# Altium footprint library SM_LED_0603_RED.PcbLib: 1 footprints
Each footprint in its own frame and in the unit in brackets; x right, y up, seen from the top. Pads: shape width x height; smd on the part's side, far side on the other; paste and mask are expansions set on the pad; w line width, h text height; cw(c..) or ccw(c..) is an arc to the next point about the centre after c.
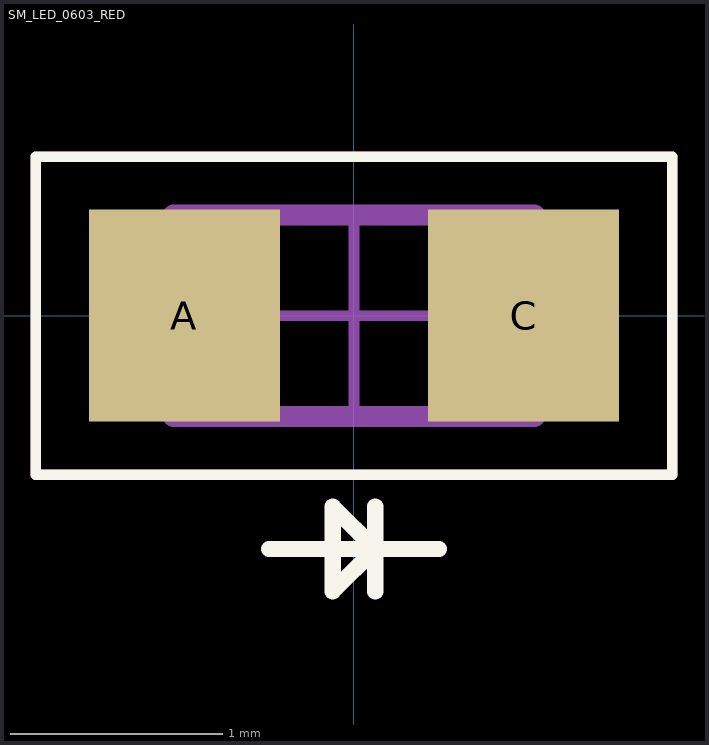
[diagram p0: the footprint, top view; thin cyan lines are the x and y axes]

## SM_LED_0603_RED [mm]
pads (2):
  rect 0.9x1 smd: A(-0.8,0) C(0.8,0)
Top Overlay:
  lines w0.05: -1.5,-0.75 -1.5,0.75 1.5,0.75 1.5,-0.75 -1.5,-0.75
  lines w0.076: -0.4,-1.1 0.4,-1.1 ; 0.1,-1.3 0.1,-0.9 ; -0.1,-1.3 0.1,-1.1 -0.1,-0.9 -0.1,-1.3
Mechanical 13:
  lines w0.1: -0.85,-0.475 0.85,-0.475 0.85,0.475 -0.85,0.475 -0.85,-0.475
Mechanical 15:
  lines w0.05: -0.475,0 0.475,0 ; 0,-0.475 0,0.475 ; -1.5,-0.75 -1.5,0.75 1.5,0.75 1.5,-0.75 -1.5,-0.75
3D body: height 0.2, standoff 0, extent -0.58,-0.474 0.581,0.475
3D body: height 0.28, standoff 0, extent -0.849,-0.474 -0.58,0.475
3D body: height 0.8, standoff 0, extent -0.58,-0.474 0.581,0.475
3D body: height 0.28, standoff 0, extent 0.581,-0.474 0.85,0.475
3D body: height 0.3, standoff 0.24, extent -0.2,-0.1 0.2,0.1